# Altium schematic symbol library daughterboard.SchLib: 6 symbols
Pins are listed as number, name and electrical type; pins without a type are passive.

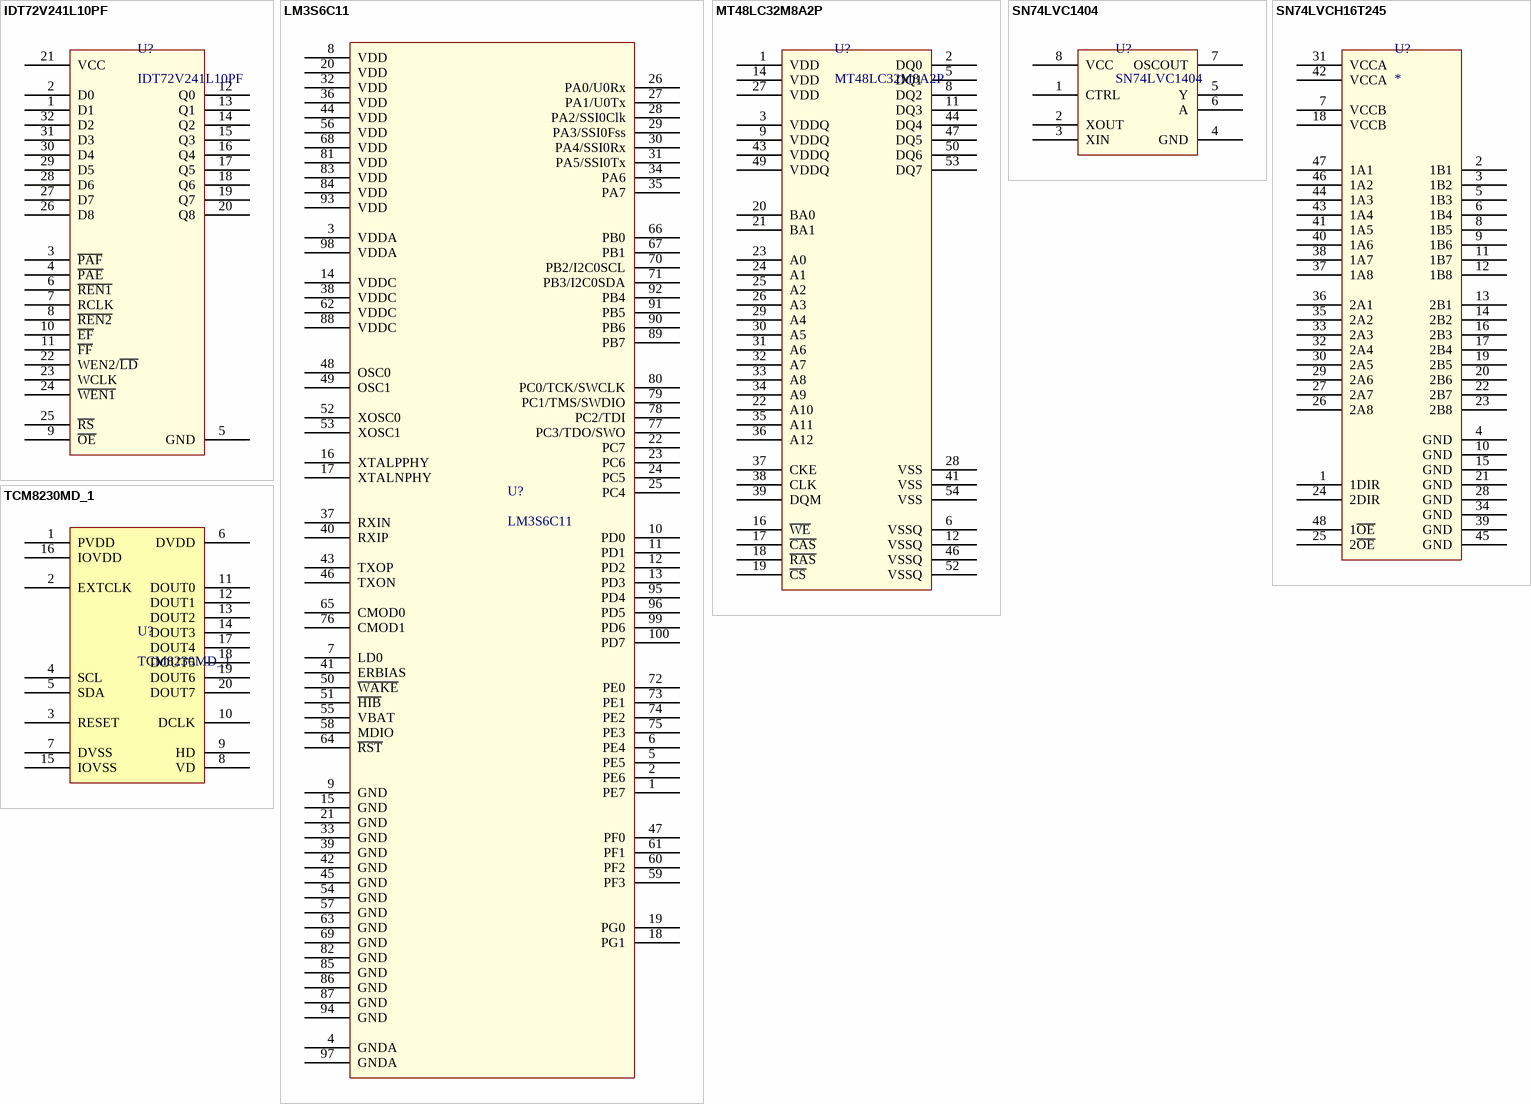
[diagram p0: symbols IDT72V241L10PF to TCM8230MD_1]

## IDT72V241L10PF
designator U?
36K (4K x 9) FIFO Buffer
pins: 1 D1, 2 D0, 3 ~{PAF}, 4 ~{PAE}, 5 GND, 6 ~{REN1}, 7 RCLK, 8 ~{REN2}, 9 ~{OE}, 10 ~{EF}, 11 ~{FF}, 12 Q0, 13 Q1, 14 Q2, 15 Q3, 16 Q4, 17 Q5, 18 Q6, 19 Q7, 20 Q8, 21 VCC, 22 WEN2/~{LD}, 23 WCLK, 24 ~{WEN1}, 25 ~{RS}, 26 D8, 27 D7, 28 D6, 29 D5, 30 D4, 31 D3, 32 D2

## LM3S6C11
designator U?
Stellaris ARM Cortex M3 microcontroller.
pins: 1 PE7, 2 PE6, 3 VDDA, 4 GNDA, 5 PE5, 6 PE4, 7 LD0, 8 VDD, 9 GND, 10 PD0, 11 PD1, 12 PD2, 13 PD3, 14 VDDC, 15 GND, 16 XTALPPHY, 17 XTALNPHY, 18 PG1, 19 PG0, 20 VDD, 21 GND, 22 PC7, 23 PC6, 24 PC5, 25 PC4, 26 PA0/U0Rx, 27 PA1/U0Tx, 28 PA2/SSI0Clk, 29 PA3/SSI0Fss, 30 PA4/SSI0Rx, 31 PA5/SSI0Tx, 32 VDD, 33 GND, 34 PA6, 35 PA7, 36 VDD, 37 RXIN, 38 VDDC, 39 GND, 40 RXIP, 41 ERBIAS, 42 GND, 43 TXOP, 44 VDD, 45 GND, 46 TXON, 47 PF0, 48 OSC0, 49 OSC1, 50 ~{WAKE}, 51 ~{HIB}, 52 XOSC0, 53 XOSC1, 54 GND, 55 VBAT, 56 VDD, 57 GND, 58 MDIO, 59 PF3, 60 PF2, 61 PF1, 62 VDDC, 63 GND, 64 ~{RST}, 65 CMOD0, 66 PB0, 67 PB1, 68 VDD, 69 GND, 70 PB2/I2C0SCL, 71 PB3/I2C0SDA, 72 PE0, 73 PE1, 74 PE2, 75 PE3, 76 CMOD1, 77 PC3/TDO/SWO, 78 PC2/TDI, 79 PC1/TMS/SWDIO, 80 PC0/TCK/SWCLK, 81 VDD, 82 GND, 83 VDD, 84 VDD, 85 GND, 86 GND, 87 GND, 88 VDDC, 89 PB7, 90 PB6, 91 PB5, 92 PB4, 93 VDD, 94 GND, 95 PD4, 96 PD5, 97 GNDA, 98 VDDA, 99 PD6, 100 PD7

## MT48LC32M8A2P
designator U?
254M (32Mx8) DDR SDRAM
pins: 1 VDD, 2 DQ0, 3 VDDQ, 4 NC hidden, 5 DQ1, 6 VSSQ, 7 NC hidden, 8 DQ2, 9 VDDQ, 10 NC hidden, 11 DQ3, 12 VSSQ, 13 NC hidden, 14 VDD, 15 NC hidden, 16 ~{WE}, 17 ~{CAS}, 18 ~{RAS}, 19 ~{CS}, 20 BA0, 21 BA1, 22 A10, 23 A0, 24 A1, 25 A2, 26 A3, 27 VDD, 28 VSS, 29 A4, 30 A5, 31 A6, 32 A7, 33 A8, 34 A9, 35 A11, 36 A12, 37 CKE, 38 CLK, 39 DQM, 40 NC hidden, 41 VSS, 42 NC hidden, 43 VDDQ, 44 DQ4, 45 NC hidden, 46 VSSQ, 47 DQ5, 48 NC hidden, 49 VDDQ, 50 DQ6, 51 NC hidden, 52 VSSQ, 53 DQ7, 54 VSS

## SN74LVC1404
designator U?
Oscillator driver.
pins: 1 CTRL, 2 XOUT, 3 XIN, 4 GND, 5 Y, 6 A, 7 OSCOUT, 8 VCC

## SN74LVCH16T245
designator U?
16-bit bus transceiver with voltage regulation.
pins: 1 1DIR, 2 1B1, 3 1B2, 4 GND, 5 1B3, 6 1B4, 7 VCCB, 8 1B5, 9 1B6, 10 GND, 11 1B7, 12 1B8, 13 2B1, 14 2B2, 15 GND, 16 2B3, 17 2B4, 18 VCCB, 19 2B5, 20 2B6, 21 GND, 22 2B7, 23 2B8, 24 2DIR, 25 2~{OE}, 26 2A8, 27 2A7, 28 GND, 29 2A6, 30 2A5, 31 VCCA, 32 2A4, 33 2A3, 34 GND, 35 2A2, 36 2A1, 37 1A8, 38 1A7, 39 GND, 40 1A6, 41 1A5, 42 VCCA, 43 1A4, 44 1A3, 45 GND, 46 1A2, 47 1A1, 48 1~{OE}

## TCM8230MD_1
designator U?
VGA CAMERA MODULE 640x480
footprint TCM8230MD (VGA CAMERA MODULE 640x480)
pins: 1 PVDD, 2 EXTCLK, 3 RESET, 4 SCL, 5 SDA, 6 DVDD, 7 DVSS, 8 VD, 9 HD, 10 DCLK, 11 DOUT0, 12 DOUT1, 13 DOUT2, 14 DOUT3, 15 IOVSS, 16 IOVDD, 17 DOUT4, 18 DOUT5, 19 DOUT6, 20 DOUT7